# Altium integrated library 61300311121.IntLib: 1 symbol
Pins are listed as number, name and electrical type; pins without a type are passive.

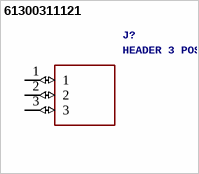
[diagram p0: symbol 61300311121]

## 61300311121
designator J?, comment HEADER 3 POSITION 2.54MM 0.100" VERTICLE UNSHROUDED BREAKAWAY THROUGH-HOLESource:  Datasheet
Manufacturer_Name: Wurth Elektronik; GateName_1: G$1; SymbolName_1: 61300311121; LibraryName: 61300311121; DeviceSetName: 61300311121; Package: HDRV3W95P0X254_1X3_762X254X869; Manufacturer_Part_Number: 61300311121; RS_Part_Number: 1725145; RS_Price-Stock: http://uk.rs-online.com/web/p/products/1725145; Arrow_Part_Number: 61300311121; Arrow_Price-Stock: http://uk.rs-online.com/web/p/products/1725145; Description: HEADER 3 POSITION 2.54MM 0.100" VERTICLE UNSHROUDED BREAKAWAY THROUGH-HOLE; Height: 8.69mm
footprint HDRV3W95P0X254_1X3_762X254X869
pins: 1 (io), 2 (io), 3 (io)